# Altium schematic symbol library MB0022A.01.A.1.SchLib: 1 symbol
Pins are listed as number, name and electrical type; pins without a type are passive.

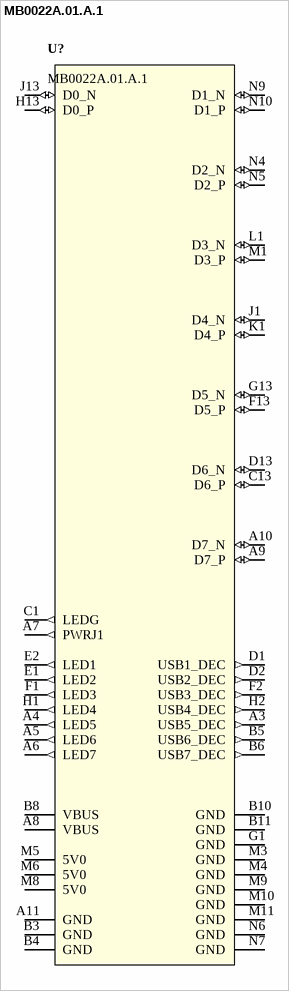
[diagram p0: symbol MB0022A.01.A.1]

## MB0022A.01.A.1
designator U?
4-port USB 2.0 hub
pins: A3 USB5_DEC (out), A4 LED5 (out), A5 LED6 (out), A6 LED7 (out), A7 PWRJ1 (out), A8 VBUS (power), A9 D7_P (io), A10 D7_N (io), A11 GND (power), B3 GND (power), B4 GND (power), B5 USB6_DEC (out), B6 USB7_DEC (out), B8 VBUS (power), B10 GND (power), B11 GND (power), C1 LEDG (out), C13 D6_P (io), D1 USB1_DEC (out), D2 USB2_DEC (out), D13 D6_N (io), E1 LED2 (out), E2 LED1 (out), F1 LED3 (out), F2 USB3_DEC (out), F13 D5_P (io), G1 GND (power), G13 D5_N (io), H1 LED4 (out), H2 USB4_DEC (out), H13 D0_P (io), J1 D4_N (io), J13 D0_N (io), K1 D4_P (io), L1 D3_N (io), M1 D3_P (io), M3 GND (power), M4 GND (power), M5 5V0 (power), M6 5V0 (power), M8 5V0 (power), M9 GND (power), M10 GND (power), M11 GND (power), N4 D2_N (io), N5 D2_P (io), N6 GND (power), N7 GND (power), N9 D1_N (io), N10 D1_P (io)